# Altium schematic symbol library VH-JST_3.96mm.SchLib: 9 symbols
Pins are listed as number, name and electrical type; pins without a type are passive.

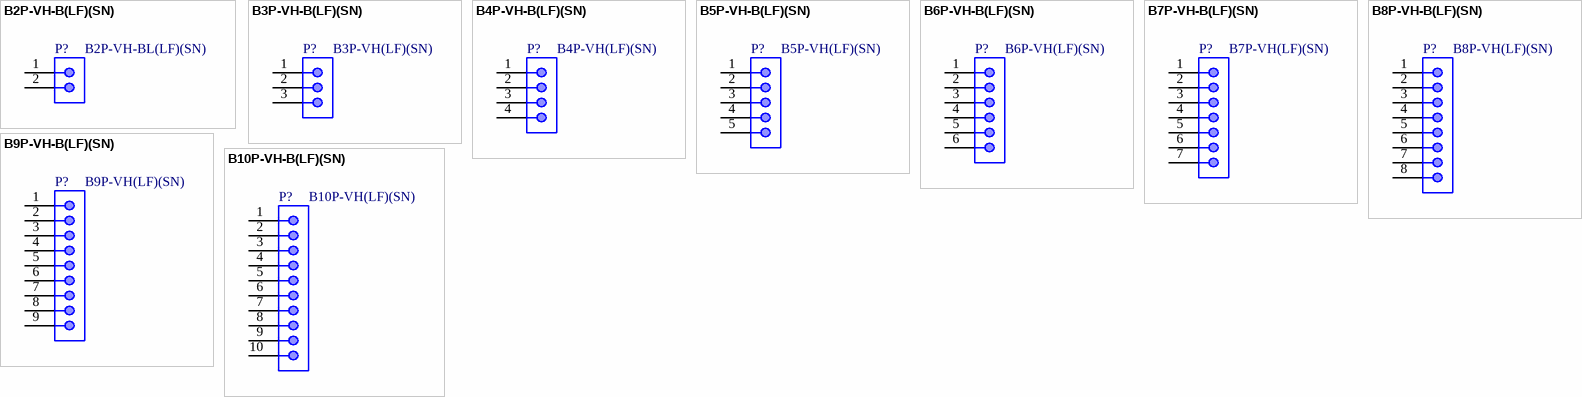
[diagram p0: symbols B2P-VH-B(LF)(SN) to B10P-VH-B(LF)(SN)]

## B2P-VH-B(LF)(SN)
designator P?, comment B2P-VH-BL(LF)(SN)
1x2P 2P VH Tin 4 -25℃~+85℃ 10A 1 3.96mm Brass Straight Plugin,P=3.96mm Wire To Board Connector ROHS; Manufacturer: JST; Pin Number: 2; Contact Resistance: 20mOhm; Gender: Male; Withstanding Voltage: 1000VAC; Working Voltage: 250VAC; ComponentLink1Description: Datasheet; ComponentLink1URL: https://www.lcsc.com/datasheet/lcsc_datasheet_2409302137_JST-B2P-VH-BL-LF-SN_C274411.pdf; Pitch: 3.96mm; Packaging: Plugin,P=3.96mm; Type: Standing paste; Rated Current: 10A; Supplier 1 URL: N/A; Supplier 2 URL: N/A; Supplier 3 URL: N/A; Value: B2P-VH-BL(LF)(SN); LCSC Part #: C274411; Manufacturer Part Number: B2P-VH-BL(LF)(SN); Mount: SMD; Operating Temperature Max: + 85 C; Operating Temperature Min: - 25 C; Package / Case: 2; Supplier 1: Mouser; Supplier 1 Part Number: N/A; Supplier 2: Digi-Key; Supplier 2 Part Number: N/A; Supplier 3: thegioiic; Supplier 3 Part Number: N/A
footprint B2P-VH(LF)(SN)
pins: 1, 2

## B3P-VH-B(LF)(SN)
designator P?, comment B3P-VH(LF)(SN)
1x3P 3P VH Tin 4 -25℃~+85℃ 10A 1 3.96mm Brass Straight Plugin,P=3.96mm Wire To Board Connector ROHS; Manufacturer: JST; Pin Number: 3; Contact Resistance: 20mOhm; Gender: Male; Withstanding Voltage: 1000VAC; Working Voltage: 250VAC; ComponentLink1Description: Datasheet; ComponentLink1URL: https://www.lcsc.com/datasheet/lcsc_datasheet_2409302137_JST-B2P-VH-BL-LF-SN_C274411.pdf; Pitch: 3.96mm; Packaging: Plugin,P=3.96mm; Type: Standing paste; Rated Current: 10A; Supplier 1 URL: N/A; Supplier 2 URL: N/A; Supplier 3 URL: N/A; Value: B3P-VH(LF)(SN); LCSC Part #: C160316; Manufacturer Part Number: B3P-VH(LF)(SN); Mount: SMD; Operating Temperature Max: + 85 C; Operating Temperature Min: - 25 C; Package / Case: 3; Supplier 1: Mouser; Supplier 1 Part Number: N/A; Supplier 2: Digi-Key; Supplier 2 Part Number: N/A; Supplier 3: thegioiic; Supplier 3 Part Number: N/A
footprint B3P-VH(LF)(SN)
pins: 1, 2, 3

## B4P-VH-B(LF)(SN)
designator P?, comment B4P-VH(LF)(SN)
1x4P 4P VH Tin 4 -25℃~+85℃ 10A 1 3.96mm Brass Straight Plugin,P=3.96mm Wire To Board Connector ROHS; Manufacturer: JST; Pin Number: 4; Contact Resistance: 20mOhm; Gender: Male; Withstanding Voltage: 1000VAC; Working Voltage: 250VAC; ComponentLink1Description: Datasheet; ComponentLink1URL: https://www.lcsc.com/datasheet/lcsc_datasheet_2409302137_JST-B2P-VH-BL-LF-SN_C274411.pdf; Pitch: 3.96mm; Packaging: Plugin,P=3.96mm; Type: Standing paste; Rated Current: 10A; Supplier 1 URL: N/A; Supplier 2 URL: N/A; Supplier 3 URL: N/A; Value: B4P-VH(LF)(SN); LCSC Part #: C160317; Manufacturer Part Number: B4P-VH(LF)(SN); Mount: SMD; Operating Temperature Max: + 85 C; Operating Temperature Min: - 25 C; Package / Case: 4; Supplier 1: Mouser; Supplier 1 Part Number: N/A; Supplier 2: Digi-Key; Supplier 2 Part Number: N/A; Supplier 3: thegioiic; Supplier 3 Part Number: N/A
footprint B4P-VH(LF)(SN)
pins: 1, 2, 3, 4

## B5P-VH-B(LF)(SN)
designator P?, comment B5P-VH(LF)(SN)
1x5P 5P VH Tin 4 -25℃~+85℃ 10A 1 3.96mm Brass Straight Plugin,P=3.96mm Wire To Board Connector ROHS; Manufacturer: JST; Pin Number: 5; Contact Resistance: 20mOhm; Gender: Male; Withstanding Voltage: 1000VAC; Working Voltage: 250VAC; ComponentLink1Description: Datasheet; ComponentLink1URL: https://www.lcsc.com/datasheet/lcsc_datasheet_2409302137_JST-B2P-VH-BL-LF-SN_C274411.pdf; Pitch: 3.96mm; Packaging: Plugin,P=3.96mm; Type: Standing paste; Rated Current: 10A; Supplier 1 URL: N/A; Supplier 2 URL: N/A; Supplier 3 URL: N/A; Value: B5P-VH(LF)(SN); LCSC Part #: C160318; Manufacturer Part Number: B5P-VH(LF)(SN); Mount: SMD; Operating Temperature Max: + 85 C; Operating Temperature Min: - 25 C; Package / Case: 5; Supplier 1: Mouser; Supplier 1 Part Number: N/A; Supplier 2: Digi-Key; Supplier 2 Part Number: N/A; Supplier 3: thegioiic; Supplier 3 Part Number: N/A
footprint B5P-VH(LF)(SN)
pins: 1, 2, 3, 4, 5

## B6P-VH-B(LF)(SN)
designator P?, comment B6P-VH(LF)(SN)
1x6P 6P VH Tin 4 -25℃~+85℃ 10A 1 3.96mm Brass Straight Plugin,P=3.96mm Wire To Board Connector ROHS; Manufacturer: JST; Pin Number: 6; Contact Resistance: 20mOhm; Gender: Male; Withstanding Voltage: 1000VAC; Working Voltage: 250VAC; ComponentLink1Description: Datasheet; ComponentLink1URL: https://www.lcsc.com/datasheet/lcsc_datasheet_2409302137_JST-B2P-VH-BL-LF-SN_C274411.pdf; Pitch: 3.96mm; Packaging: Plugin,P=3.96mm; Type: Standing paste; Rated Current: 10A; Supplier 1 URL: N/A; Supplier 2 URL: N/A; Supplier 3 URL: N/A; Value: B6P-VH(LF)(SN); LCSC Part #: C160314; Manufacturer Part Number: B6P-VH(LF)(SN); Mount: SMD; Operating Temperature Max: + 85 C; Operating Temperature Min: - 25 C; Package / Case: 6; Supplier 1: Mouser; Supplier 1 Part Number: N/A; Supplier 2: Digi-Key; Supplier 2 Part Number: N/A; Supplier 3: thegioiic; Supplier 3 Part Number: N/A
footprint B6P-VH(LF)(SN)
pins: 1, 2, 3, 4, 5, 6

## B7P-VH-B(LF)(SN)
designator P?, comment B7P-VH(LF)(SN)
1x7P 7P VH Tin 4 -25℃~+85℃ 10A 1 3.96mm Brass Straight Plugin,P=3.96mm Wire To Board Connector ROHS; Manufacturer: JST; Pin Number: 7; Contact Resistance: 20mOhm; Gender: Male; Withstanding Voltage: 1000VAC; Working Voltage: 250VAC; ComponentLink1Description: Datasheet; ComponentLink1URL: https://www.lcsc.com/datasheet/lcsc_datasheet_2409302137_JST-B2P-VH-BL-LF-SN_C274411.pdf; Pitch: 3.96mm; Packaging: Plugin,P=3.96mm; Type: Standing paste; Rated Current: 10A; Supplier 1 URL: N/A; Supplier 2 URL: N/A; Supplier 3 URL: N/A; Value: B7P-VH(LF)(SN); LCSC Part #: C160319; Manufacturer Part Number: B7P-VH(LF)(SN); Mount: SMD; Operating Temperature Max: + 85 C; Operating Temperature Min: - 25 C; Package / Case: 7; Supplier 1: Mouser; Supplier 1 Part Number: N/A; Supplier 2: Digi-Key; Supplier 2 Part Number: N/A; Supplier 3: thegioiic; Supplier 3 Part Number: N/A
footprint B7P-VH(LF)(SN)
pins: 1, 2, 3, 4, 5, 6, 7

## B8P-VH-B(LF)(SN)
designator P?, comment B8P-VH(LF)(SN)
1x8P 8P VH Tin 4 -25℃~+85℃ 10A 1 3.96mm Brass Straight Plugin,P=3.96mm Wire To Board Connector ROHS; Manufacturer: JST; Pin Number: 8; Contact Resistance: 20mOhm; Gender: Male; Withstanding Voltage: 1000VAC; Working Voltage: 250VAC; ComponentLink1Description: Datasheet; ComponentLink1URL: https://www.lcsc.com/datasheet/lcsc_datasheet_2409302137_JST-B2P-VH-BL-LF-SN_C274411.pdf; Pitch: 3.96mm; Packaging: Plugin,P=3.96mm; Type: Standing paste; Rated Current: 10A; Supplier 1 URL: N/A; Supplier 2 URL: N/A; Supplier 3 URL: N/A; Value: B8P-VH(LF)(SN); LCSC Part #: C160320; Manufacturer Part Number: B8P-VH(LF)(SN); Mount: SMD; Operating Temperature Max: + 85 C; Operating Temperature Min: - 25 C; Package / Case: 8; Supplier 1: Mouser; Supplier 1 Part Number: N/A; Supplier 2: Digi-Key; Supplier 2 Part Number: N/A; Supplier 3: thegioiic; Supplier 3 Part Number: N/A
footprint B8P-VH(LF)(SN)
pins: 1, 2, 3, 4, 5, 6, 7, 8

## B9P-VH-B(LF)(SN)
designator P?, comment B9P-VH(LF)(SN)
1x9P 9P VH Tin 4 -25℃~+85℃ 10A 1 3.96mm Brass Straight Plugin,P=3.96mm Wire To Board Connector ROHS; Manufacturer: JST; Pin Number: 9; Contact Resistance: 20mOhm; Gender: Male; Withstanding Voltage: 1000VAC; Working Voltage: 250VAC; ComponentLink1Description: Datasheet; ComponentLink1URL: https://www.lcsc.com/datasheet/lcsc_datasheet_2409302137_JST-B2P-VH-BL-LF-SN_C274411.pdf; Pitch: 3.96mm; Packaging: Plugin,P=3.96mm; Type: Standing paste; Rated Current: 10A; Supplier 1 URL: N/A; Supplier 2 URL: N/A; Supplier 3 URL: N/A; Value: B9P-VH(LF)(SN); LCSC Part #: C160321; Manufacturer Part Number: B9P-VH(LF)(SN); Mount: SMD; Operating Temperature Max: + 85 C; Operating Temperature Min: - 25 C; Package / Case: 9; Supplier 1: Mouser; Supplier 1 Part Number: N/A; Supplier 2: Digi-Key; Supplier 2 Part Number: N/A; Supplier 3: thegioiic; Supplier 3 Part Number: N/A
footprint B9P-VH(LF)(SN)
pins: 1, 2, 3, 4, 5, 6, 7, 8, 9

## B10P-VH-B(LF)(SN)
designator P?, comment B10P-VH(LF)(SN)
1x10P 10P VH Tin 4 -25℃~+85℃ 10A 1 3.96mm Brass Straight Plugin,P=3.96mm Wire To Board Connector ROHS; Manufacturer: JST; Pin Number: 10; Contact Resistance: 20mOhm; Gender: Male; Withstanding Voltage: 1000VAC; Working Voltage: 250VAC; ComponentLink1Description: Datasheet; ComponentLink1URL: https://www.lcsc.com/datasheet/lcsc_datasheet_2409302137_JST-B2P-VH-BL-LF-SN_C274411.pdf; Pitch: 3.96mm; Packaging: Plugin,P=3.96mm; Type: Standing paste; Rated Current: 10A; Supplier 1 URL: N/A; Supplier 2 URL: N/A; Supplier 3 URL: N/A; Value: B10P-VH(LF)(SN); LCSC Part #: C160322; Manufacturer Part Number: B10P-VH(LF)(SN); Mount: SMD; Operating Temperature Max: + 85 C; Operating Temperature Min: - 25 C; Package / Case: 10; Supplier 1: Mouser; Supplier 1 Part Number: N/A; Supplier 2: Digi-Key; Supplier 2 Part Number: N/A; Supplier 3: thegioiic; Supplier 3 Part Number: N/A
footprint B10P-VH(LF)(SN)
pins: 1, 2, 3, 4, 5, 6, 7, 8, 9, 10